# Altium footprint library DRV5032AJDMRR.PcbLib: 1 footprints
Each footprint in its own frame and in the unit in brackets; x right, y up, seen from the top. Pads: shape width x height; smd on the part's side, far side on the other; paste and mask are expansions set on the pad; w line width, h text height; cw(c..) or ccw(c..) is an arc to the next point about the centre after c.
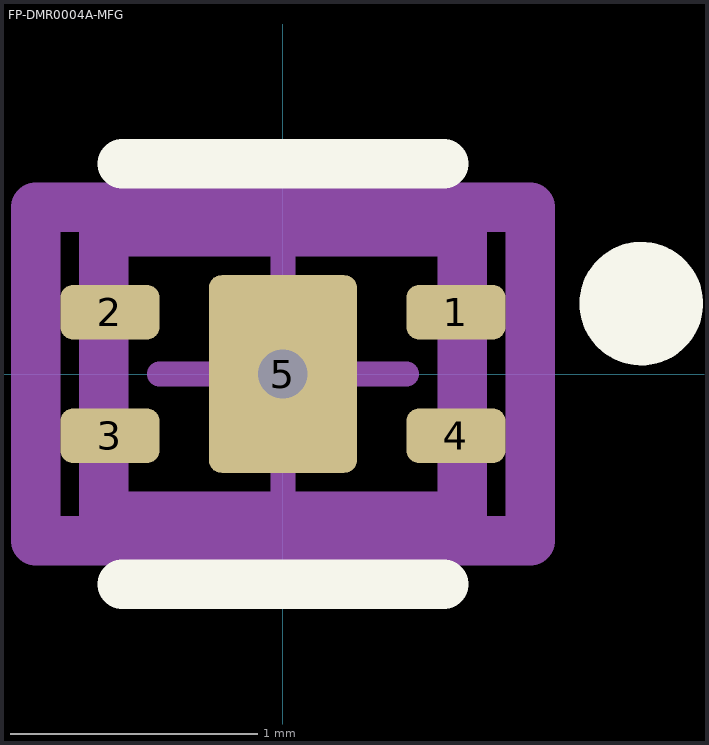
[diagram p0: the footprint, top view; thin cyan lines are the x and y axes]

## FP-DMR0004A-MFG [mm]
pads (5):
  rrect45% 0.4x0.22 smd paste+0 mask+0: 1(0.7,0.25) 2(-0.7,0.25) 3(-0.7,-0.25) 4(0.7,-0.25)
  rrect17% 0.6x0.8 smd paste-1000 mask+0: 5(0,0)
via 0,0 diameter 0.5 hole 0.2
Top Overlay:
  circle w0.25: c1.45,0.285 r0.125
  lines w0.2: -0.65,-0.85 0.65,-0.85 ; -0.65,0.85 0.65,0.85
Top Paste:
  region: 0.235,-0.38 -0.235,-0.38 -0.245,-0.38 -0.263,-0.372 -0.277,-0.358 -0.285,-0.34 -0.285,-0.33 -0.285,0.33 -0.285,0.34 -0.277,0.358 -0.263,0.372 -0.245,0.38 -0.235,0.38 0.235,0.38 0.245,0.38 0.263,0.372 0.277,0.358 0.285,0.34 0.285,0.33 0.285,-0.33 0.285,-0.34 0.277,-0.358 0.263,-0.372 0.245,-0.38
Top Assembly:
  lines w0.2: -1,-0.675 -1,0.675 1,0.675 1,-0.675 -1,-0.675
  text ".Designator" at 0,-0.001 h1
Top 3D Body:
  lines w0.2: -0.725,-0.575 -0.725,0.575 0.725,0.575 0.725,-0.575 -0.725,-0.575
Top Courtyard:
  lines w0.2: -1,-0.675 -1,0.675 1,0.675 1,-0.675 -1,-0.675
Top Component Center:
  lines w0.1: -0.5,0 0.5,0 ; 0,-0.5 0,0.5
3D body "IC_Texas_Instruments_DRV5011ADDMRT_eec.STEP": height 0.25, standoff 0, extent -1,-0.675 1,0.675